# Altium footprint library PCB1.PcbLib: 26 footprints (part 2 of 2)
Each footprint in its own frame and in the unit in brackets; x right, y up, seen from the top. Pads: shape width x height; smd on the part's side, far side on the other; paste and mask are expansions set on the pad; w line width, h text height; cw(c..) or ccw(c..) is an arc to the next point about the centre after c.
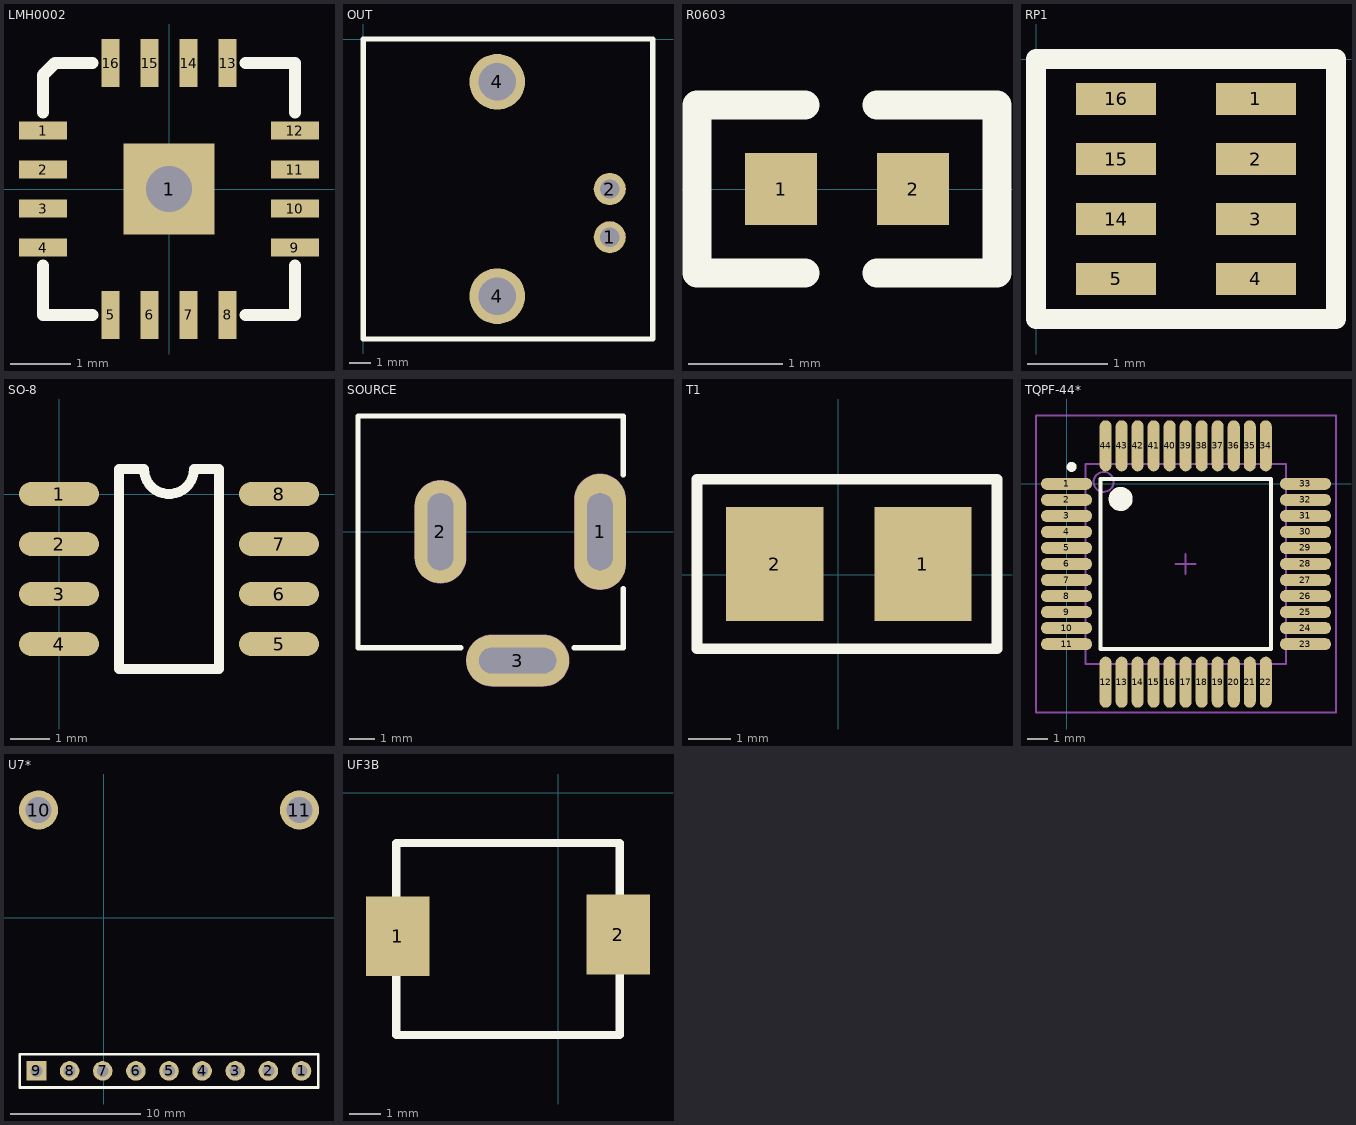
[diagram p1: the footprints below, top view; thin cyan lines are the x and y axes]

## LMH0002 [mm]
pads (17):
  rect 0.8x0.3 smd: 1(-2.1,0.975) 2(-2.1,0.325) 3(-2.1,-0.325) 4(-2.1,-0.975) 9(2.1,-0.975) 10(2.1,-0.325) 11(2.1,0.325) 12(2.1,0.975)
  rect 1.524x1.524 hole 0.762: 1(0,0)
  rect 0.3x0.8 smd: 5(-0.975,-2.1) 6(-0.325,-2.1) 7(0.325,-2.1) 8(0.975,-2.1) 13(0.975,2.1) 14(0.325,2.1) 15(-0.325,2.1) 16(-0.975,2.1)
Top Overlay:
  lines w0.2: -2.1,-1.275 -2.1,-2.1 -1.275,-2.1 ; -2.1,1.275 -2.1,1.9 -1.9,2.1 -1.275,2.1 ; 1.275,-2.1 2.1,-2.1 2.1,-1.275 ; 1.275,2.1 2.1,2.1 2.1,1.275

## OUT [mm]
pads (4):
  round 1.5 hole 0.9: 1(11.5,-9.25) 2(11.5,-7)
  round 2.6 hole 1.762: 4(6.25,-12) 4(6.25,-2)
Top Overlay:
  lines w0.254: 0,-14 0,0 13.5,0 13.5,-14 0,-14

## R0603 [mil]
height 39.37
pads (2):
  rect 30x30 smd: 1(-100,0) 2(-45,0)
Top Overlay:
  lines w12: -90,-35 -135,-35 -135,35 -90,35 ; -60,-35 -10,-35 -10,35 -60,35

## RP1 [mm]
pads (8):
  rect 1x0.4 smd: 1(2.75,-0.5) 2(2.75,-1.25) 3(2.75,-2) 4(2.75,-2.75) 5(1,-2.75) 14(1,-2) 15(1,-1.25) 16(1,-0.5)
Top Overlay:
  lines w0.254: 0,-3.25 0,0 3.75,0 3.75,-3.25 0,-3.25

## SO-8 [mil]
pads (8):
  oval 80x24 smd: 1(0,0) 2(0,-50) 3(0,-100) 4(0,-150) 5(220,-150) 6(220,-100) 7(220,-50) 8(220,0)
Top Overlay:
  lines w10: 60,-175 60,25 85,25 ccw(c110,25) 135,25 160,25 160,-175 60,-175

## SOURCE [mm]
height 1.75
pads (3):
  oval 2x4.5 hole 1 slot 3 at 90 deg: 1(13.7,0)
  oval 2x4 hole 1 slot 3 at 90 deg: 2(7.5,0)
  oval 4x2 hole 1 slot 3 at 0 deg: 3(10.5,-5)
Top Overlay:
  lines w0.2: 8.3,-4.5 4.3,-4.5 4.3,4.5 14.6,4.5 14.6,2.2 ; 12.7,-4.5 14.6,-4.5 14.6,-2.2
Mechanical 1:
  lines w1: 7.5,-1 7.5,1 ; 9.5,-5 11.5,-5 ; 13.7,-1.25 13.7,1.25
Mechanical 2:
  lines w2.016: 7.5,-1 7.5,1 ; 9.5,-5 11.5,-5 ; 13.7,-1.25 13.7,1.25

## T1 [mm]
pads (2):
  rect 2.3x2.7 smd: 1(2,0.25) 2(-1.5,0.25)
Top Overlay:
  lines w0.254: -3.338,-1.75 3.75,-1.75 3.75,2.25 -3.338,2.25 -3.338,-1.75

## TQPF-44* [mm]
pads (44):
  oval 2.55x0.6 smd: 1(0,0) 2(0,-0.8) 3(0,-1.6) 4(0,-2.4) 5(0,-3.2) 6(0,-4) 7(0,-4.8) 8(0,-5.6) 9(0,-6.4) 10(0,-7.2) 11(0,-8) 23(11.938,-8) 24(11.938,-7.2) 25(11.938,-6.4) 26(11.938,-5.6) 27(11.938,-4.8) 28(11.938,-4) 29(11.938,-3.2) 30(11.938,-2.4) 31(11.938,-1.6) 32(11.938,-0.8) 33(11.938,0)
  oval 0.6x2.55 smd: 12(1.954,-9.906) 13(2.754,-9.906) 14(3.554,-9.906) 15(4.354,-9.906) 16(5.154,-9.906) 17(5.954,-9.906) 18(6.754,-9.906) 19(7.554,-9.906) 20(8.354,-9.906) 21(9.154,-9.906) 22(9.954,-9.906) 34(9.954,1.905) 35(9.154,1.905) 36(8.354,1.905) 37(7.554,1.905) 38(6.754,1.905) 39(5.954,1.905) 40(5.154,1.905) 41(4.354,1.905) 42(3.554,1.905) 43(2.754,1.905) 44(1.954,1.905)
Top Overlay:
  circle w0.6: c2.704,-0.75 r0.3
  circle w0.25: c0.254,0.85 r0.125
  lines w0.2: 1.704,-8.25 10.204,-8.25 10.204,0.25 1.704,0.25 1.704,-8.25
Mechanical 13:
  circle w0.1: c1.854,0.1 r0.5
  lines w0.1: 0.954,-9 10.954,-9 10.954,1 0.954,1 0.954,-9
Mechanical 15:
  lines w0.1: 5.454,-4 6.454,-4 ; 5.954,-4.5 5.954,-3.5 ; -1.524,-11.43 13.462,-11.43 13.462,3.429 -1.524,3.429 -1.524,-11.43
3D body: height 1.2, standoff 0, extent 0.954,-9 10.954,1

## U7* [mm]
pads (11):
  round 1.5 hole 0.9: 1(15.16,-11.75) 2(12.62,-11.75) 3(10.08,-11.75) 4(7.54,-11.75) 5(5,-11.75) 6(2.46,-11.75) 7(-0.08,-11.75) 8(-2.62,-11.75)
  rect 1.5x1.5 hole 0.9: 9(-5.16,-11.75)
  round 3 hole 2: 10(-5,8.25) 11(15,8.25)
Top Overlay:
  lines w0.2: -6.43,-13.02 -6.43,-10.48 16.43,-10.48 16.43,-13.02 -6.43,-13.02

## UF3B [mm]
pads (2):
  rect 2x2.5 smd: 1(-5.029,-4.496) 2(1.88,-4.445)
Top Overlay:
  lines w0.254: -5.08,-7.595 1.93,-7.595 1.93,-1.575 -5.08,-1.575 -5.08,-7.595